# EAGLE library part CD74HCT4046AM96 (library CD74HCT4046AM96)
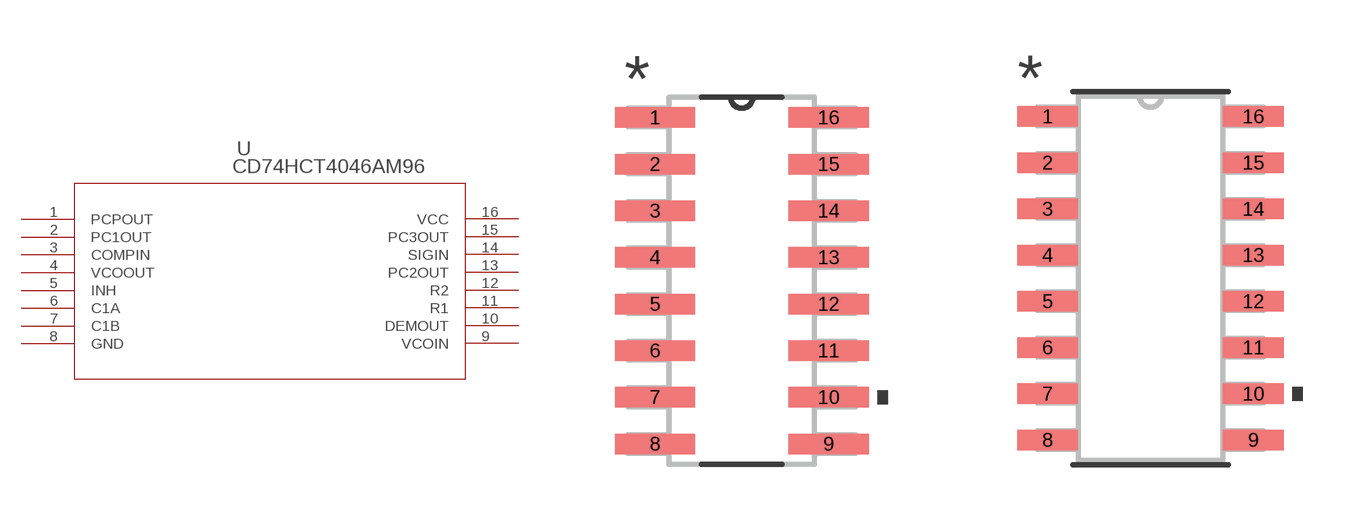
[diagram p0: symbol with the pads of D16; footprints D16, D16-M]

Designator prefix U

## CD74HCT4046AM96 (COPYRIGHT: Copyright (C) 2024 Ultra Librarian. All rights reserved.; MANUFACTURER_PART_NUMBER: CD74HCT4046AM96; MFR_NAME: Texas Instruments)  [D16]
1  PCPOUT  out
2  PC1OUT  out
3  COMPIN  in
4  VCOOUT  out
5  INH  in
6  C1A  pas
7  C1B  pas
8  GND  pwr
9  VCOIN  in
10  DEMOUT  out
11  R1  pas
12  R2  pas
13  PC2OUT  out
14  SIGIN  in
15  PC3OUT  out
16  VCC  pwr

## CD74HCT4046AM96D16-M (COPYRIGHT: Copyright (C) 2024 Ultra Librarian. All rights reserved.; MANUFACTURER_PART_NUMBER: CD74HCT4046AM96; MFR_NAME: Texas Instruments)  [D16-M]
Pads as for D16

## CD74HCT4046AM96D16-L (COPYRIGHT: Copyright (C) 2024 Ultra Librarian. All rights reserved.; MANUFACTURER_PART_NUMBER: CD74HCT4046AM96; MFR_NAME: Texas Instruments)  [D16-L]
Pads as for D16

## Footprint D16 (pad centres in mm)
smd 2.184 x 0.559: 1 -2.362,4.445; 2 -2.362,3.175; 3 -2.362,1.905; 4 -2.362,0.635; 5 -2.362,-0.635; 6 -2.362,-1.905; 7 -2.362,-3.175; 8 -2.362,-4.445; 9 2.362,-4.445; 10 2.362,-3.175; 11 2.362,-1.905; 12 2.362,-0.635; 13 2.362,0.635; 14 2.362,1.905; 15 2.362,3.175; 16 2.362,4.445

## Footprint D16-M (pad centres in mm)
smd 1.664 x 0.559: 1 -2.826,4.445; 2 -2.826,3.175; 3 -2.826,1.905; 4 -2.826,0.635; 5 -2.826,-0.635; 6 -2.826,-1.905; 7 -2.826,-3.175; 8 -2.826,-4.445; 9 2.826,-4.445; 10 2.826,-3.175; 11 2.826,-1.905; 12 2.826,-0.635; 13 2.826,0.635; 14 2.826,1.905; 15 2.826,3.175; 16 2.826,4.445

## Footprint D16-L (pad centres in mm)
smd 1.257 x 0.508: 1 -2.623,4.445; 2 -2.623,3.175; 3 -2.623,1.905; 4 -2.623,0.635; 5 -2.623,-0.635; 6 -2.623,-1.905; 7 -2.623,-3.175; 8 -2.623,-4.445; 9 2.623,-4.445; 10 2.623,-3.175; 11 2.623,-1.905; 12 2.623,-0.635; 13 2.623,0.635; 14 2.623,1.905; 15 2.623,3.175; 16 2.623,4.445